# Altium footprint library CONN_W2B_JST.PcbLib: 168 footprints (part 4 of 11)
Each footprint in its own frame and in the unit in brackets; x right, y up, seen from the top. Pads: shape width x height; smd on the part's side, far side on the other; paste and mask are expansions set on the pad; w line width, h text height; cw(c..) or ccw(c..) is an arc to the next point about the centre after c.
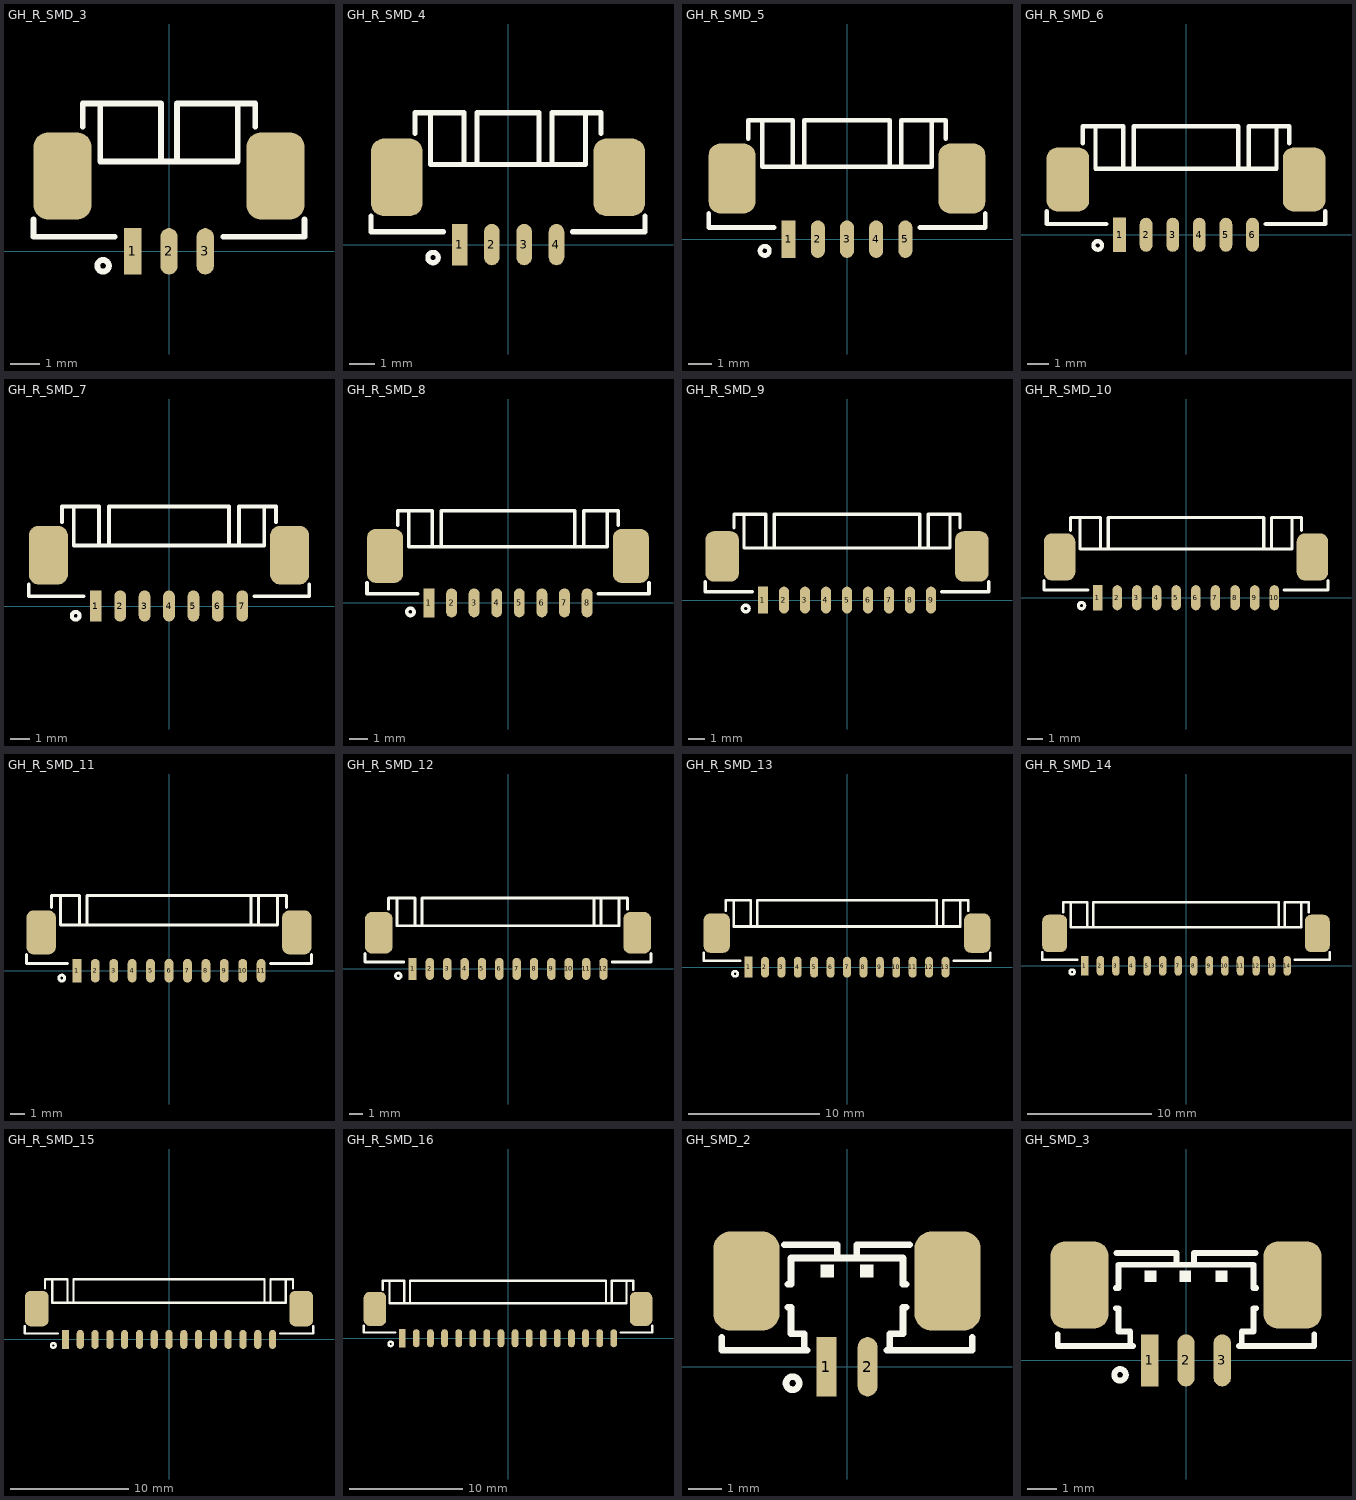
[diagram p3: the footprints below, top view; thin cyan lines are the x and y axes]

## GH_R_SMD_3 [mm] "JST GH Series, pitch: 1.25mm, 1.0A/50v, Right Angle, SMD"
pads (5):
  rect 0.6x1.6 smd: 1(-1.25,0)
  oval 0.6x1.6 smd: 2(0,0) 3(1.25,0)
  rrect50% 2x3 smd: ""(-3.675,2.6) ""(3.675,2.6)
Top Overlay:
  circle w0.2: c-2.275,-0.5 r0.2
  lines w0.2: -4.675,1.1 -4.675,0.5 -1.875,0.5 ; -2.975,4.3 -2.975,5.1 -0.275,5.1 -0.275,3.1 ; -2.375,5.1 -2.375,3.1 2.375,3.1 2.375,5.1 ; 0.275,3.1 0.275,5.1 2.975,5.1 2.975,4.3 ; 1.875,0.5 4.675,0.5 4.675,1.1
3D body "JST - GH - SMD (R) - 3Pin - 1.25mm.stp": height 3.53, standoff 0, extent -4.539,-0.345 4.539,5.002

## GH_R_SMD_4 [mm] "JST GH Series, pitch: 1.25mm, 1.0A/50v, Right Angle, SMD"
pads (6):
  rect 0.6x1.6 smd: 1(-1.875,0)
  oval 0.6x1.6 smd: 2(-0.625,0) 3(0.625,0) 4(1.875,0)
  rrect50% 2x3 smd: ""(-4.3,2.6) ""(4.3,2.6)
Top Overlay:
  circle w0.2: c-2.9,-0.5 r0.2
  lines w0.2: -5.3,1.1 -5.3,0.5 -2.5,0.5 ; -3.6,4.3 -3.6,5.1 -1.7,5.1 -1.7,3.1 ; -3,5.1 -3,3.1 3,3.1 3,5.1 ; -1.2,3.1 -1.2,5.1 1.2,5.1 1.2,3.1 ; 1.7,3.1 1.7,5.1 3.6,5.1 3.6,4.3 ; 2.5,0.5 5.3,0.5 5.3,1.1
3D body "JST - GH - SMD (R) - 4Pin - 1.25mm.stp": height 3.53, standoff 0, extent -5.164,-0.345 5.164,5.002

## GH_R_SMD_5 [mm] "JST GH Series, pitch: 1.25mm, 1.0A/50v, Right Angle, SMD"
pads (7):
  rect 0.6x1.6 smd: 1(-2.5,0)
  oval 0.6x1.6 smd: 2(-1.25,0) 3(0,0) 4(1.25,0) 5(2.5,0)
  rrect50% 2x3 smd: ""(-4.925,2.6) ""(4.925,2.6)
Top Overlay:
  circle w0.2: c-3.525,-0.5 r0.2
  lines w0.2: -5.925,1.1 -5.925,0.5 -3.125,0.5 ; -4.225,4.3 -4.225,5.1 -2.325,5.1 -2.325,3.1 ; -3.625,5.1 -3.625,3.1 3.625,3.1 3.625,5.1 ; -1.825,3.1 -1.825,5.1 1.825,5.1 1.825,3.1 ; 2.325,3.1 2.325,5.1 4.225,5.1 4.225,4.3 ; 3.125,0.5 5.925,0.5 5.925,1.1
3D body "JST - GH - SMD (R) - 5Pin - 1.25mm.stp": height 3.53, standoff 0, extent -5.789,-0.345 5.789,5.002

## GH_R_SMD_6 [mm] "JST GH Series, pitch: 1.25mm, 1.0A/50v, Right Angle, SMD"
pads (8):
  rect 0.6x1.6 smd: 1(-3.125,0)
  oval 0.6x1.6 smd: 2(-1.875,0) 3(-0.625,0) 4(0.625,0) 5(1.875,0) 6(3.125,0)
  rrect50% 2x3 smd: ""(-5.55,2.6) ""(5.55,2.6)
Top Overlay:
  circle w0.2: c-4.15,-0.5 r0.2
  lines w0.2: -6.55,1.1 -6.55,0.5 -3.75,0.5 ; -4.85,4.3 -4.85,5.1 -2.95,5.1 -2.95,3.1 ; -4.25,5.1 -4.25,3.1 4.25,3.1 4.25,5.1 ; -2.45,3.1 -2.45,5.1 2.45,5.1 2.45,3.1 ; 2.95,3.1 2.95,5.1 4.85,5.1 4.85,4.3 ; 3.75,0.5 6.55,0.5 6.55,1.1
3D body "JST - GH - SMD (R) - 6Pin - 1.25mm.stp": height 3.53, standoff 0, extent -6.414,-0.345 6.414,5.002

## GH_R_SMD_7 [mm] "JST GH Series, pitch: 1.25mm, 1.0A/50v, Right Angle, SMD"
pads (9):
  rect 0.6x1.6 smd: 1(-3.75,0)
  oval 0.6x1.6 smd: 2(-2.5,0) 3(-1.25,0) 4(0,0) 5(1.25,0) 6(2.5,0) 7(3.75,0)
  rrect50% 2x3 smd: ""(-6.175,2.6) ""(6.175,2.6)
Top Overlay:
  circle w0.2: c-4.775,-0.5 r0.2
  lines w0.2: -7.175,1.1 -7.175,0.5 -4.375,0.5 ; -5.475,4.3 -5.475,5.1 -3.575,5.1 -3.575,3.1 ; -4.875,5.1 -4.875,3.1 4.875,3.1 4.875,5.1 ; -3.075,3.1 -3.075,5.1 3.075,5.1 3.075,3.1 ; 3.575,3.1 3.575,5.1 5.475,5.1 5.475,4.3 ; 4.375,0.5 7.175,0.5 7.175,1.1
3D body "JST - GH - SMD (R) - 7Pin - 1.25mm.stp": height 3.53, standoff 0, extent -7.039,-0.345 7.039,5.002

## GH_R_SMD_8 [mm] "JST GH Series, pitch: 1.25mm, 1.0A/50v, Right Angle, SMD"
pads (10):
  rect 0.6x1.6 smd: 1(-4.375,0)
  oval 0.6x1.6 smd: 2(-3.125,0) 3(-1.875,0) 4(-0.625,0) 5(0.625,0) 6(1.875,0) 7(3.125,0) 8(4.375,0)
  rrect50% 2x3 smd: ""(-6.8,2.6) ""(6.8,2.6)
Top Overlay:
  circle w0.2: c-5.4,-0.5 r0.2
  lines w0.2: -7.8,1.1 -7.8,0.5 -5,0.5 ; -6.1,4.3 -6.1,5.1 -4.2,5.1 -4.2,3.1 ; -5.5,5.1 -5.5,3.1 5.5,3.1 5.5,5.1 ; -3.7,3.1 -3.7,5.1 3.7,5.1 3.7,3.1 ; 4.2,3.1 4.2,5.1 6.1,5.1 6.1,4.3 ; 5,0.5 7.8,0.5 7.8,1.1
3D body "JST - GH - SMD (R) - 8Pin - 1.25mm.stp": height 3.53, standoff 0, extent -7.664,-0.345 7.664,5.002

## GH_R_SMD_9 [mm] "JST GH Series, pitch: 1.25mm, 1.0A/50v, Right Angle, SMD"
pads (11):
  rect 0.6x1.6 smd: 1(-5,0)
  oval 0.6x1.6 smd: 2(-3.75,0) 3(-2.5,0) 4(-1.25,0) 5(0,0) 6(1.25,0) 7(2.5,0) 8(3.75,0) 9(5,0)
  rrect50% 2x3 smd: ""(-7.425,2.6) ""(7.425,2.6)
Top Overlay:
  circle w0.2: c-6.025,-0.5 r0.2
  lines w0.2: -8.425,1.1 -8.425,0.5 -5.625,0.5 ; -6.725,4.3 -6.725,5.1 -4.825,5.1 -4.825,3.1 ; -6.125,5.1 -6.125,3.1 6.125,3.1 6.125,5.1 ; -4.325,3.1 -4.325,5.1 4.325,5.1 4.325,3.1 ; 4.825,3.1 4.825,5.1 6.725,5.1 6.725,4.3 ; 5.625,0.5 8.425,0.5 8.425,1.1
3D body "JST - GH - SMD (R) - 9Pin - 1.25mm.stp": height 3.53, standoff 0, extent -8.289,-0.345 8.289,5.002

## GH_R_SMD_10 [mm] "JST GH Series, pitch: 1.25mm, 1.0A/50v, Right Angle, SMD"
pads (12):
  rect 0.6x1.6 smd: 1(-5.625,0)
  oval 0.6x1.6 smd: 2(-4.375,0) 3(-3.125,0) 4(-1.875,0) 5(-0.625,0) 6(0.625,0) 7(1.875,0) 8(3.125,0) 9(4.375,0) 10(5.625,0)
  rrect50% 2x3 smd: ""(-8.05,2.6) ""(8.05,2.6)
Top Overlay:
  circle w0.2: c-6.65,-0.5 r0.2
  lines w0.2: -9.05,1.1 -9.05,0.5 -6.25,0.5 ; -7.35,4.3 -7.35,5.1 -5.45,5.1 -5.45,3.1 ; -6.75,5.1 -6.75,3.1 6.75,3.1 6.75,5.1 ; -4.95,3.1 -4.95,5.1 4.95,5.1 4.95,3.1 ; 5.45,3.1 5.45,5.1 7.35,5.1 7.35,4.3 ; 6.25,0.5 9.05,0.5 9.05,1.1
3D body "JST - GH - SMD (R) - 10Pin - 1.25mm.stp": height 3.53, standoff 0, extent -8.914,-0.345 8.914,5.002

## GH_R_SMD_11 [mm] "JST GH Series, pitch: 1.25mm, 1.0A/50v, Right Angle, SMD"
pads (13):
  rect 0.6x1.6 smd: 1(-6.25,0)
  oval 0.6x1.6 smd: 2(-5,0) 3(-3.75,0) 4(-2.5,0) 5(-1.25,0) 6(0,0) 7(1.25,0) 8(2.5,0) 9(3.75,0) 10(5,0) 11(6.25,0)
  rrect50% 2x3 smd: ""(-8.675,2.6) ""(8.675,2.6)
Top Overlay:
  circle w0.2: c-7.275,-0.5 r0.2
  lines w0.2: -9.675,1.1 -9.675,0.5 -6.875,0.5 ; -7.975,4.3 -7.975,5.1 -6.075,5.1 -6.075,3.1 ; -7.375,5.1 -7.375,3.1 7.375,3.1 7.375,5.1 ; -5.575,3.1 -5.575,5.1 7.975,5.1 ; 5.575,3.1 5.575,5.1 ; 6.075,3.1 6.075,5.1 7.975,5.1 ; 6.875,0.5 9.675,0.5 9.675,1.1 ; 7.975,4.3 7.975,5.1
3D body "JST - GH - SMD (R) - 11Pin - 1.25mm.stp": height 3.53, standoff 0, extent -9.539,-0.345 9.539,5.002

## GH_R_SMD_12 [mm] "JST GH Series, pitch: 1.25mm, 1.0A/50v, Right Angle, SMD"
pads (14):
  rect 0.6x1.6 smd: 1(-6.875,0)
  oval 0.6x1.6 smd: 2(-5.625,0) 3(-4.375,0) 4(-3.125,0) 5(-1.875,0) 6(-0.625,0) 7(0.625,0) 8(1.875,0) 9(3.125,0) 10(4.375,0) 11(5.625,0) 12(6.875,0)
  rrect50% 2x3 smd: ""(-9.3,2.6) ""(9.3,2.6)
Top Overlay:
  circle w0.2: c-7.9,-0.5 r0.2
  lines w0.2: -10.3,1.1 -10.3,0.5 -7.5,0.5 ; -8.6,4.3 -8.6,5.1 -6.7,5.1 -6.7,3.1 ; -8,5.1 -8,3.1 8,3.1 8,5.1 ; -6.2,3.1 -6.2,5.1 8.6,5.1 ; 6.2,3.1 6.2,5.1 ; 6.7,3.1 6.7,5.1 8.6,5.1 ; 7.5,0.5 10.3,0.5 10.3,1.1 ; 8.6,4.3 8.6,5.1
3D body "JST - GH - SMD (R) - 12Pin - 1.25mm.stp": height 3.53, standoff 0, extent -10.164,-0.345 10.164,5.002

## GH_R_SMD_13 [mm] "JST GH Series, pitch: 1.25mm, 1.0A/50v, Right Angle, SMD"
pads (15):
  rect 0.6x1.6 smd: 1(-7.5,0)
  oval 0.6x1.6 smd: 2(-6.25,0) 3(-5,0) 4(-3.75,0) 5(-2.5,0) 6(-1.25,0) 7(0,0) 8(1.25,0) 9(2.5,0) 10(3.75,0) 11(5,0) 12(6.25,0) 13(7.5,0)
  rrect50% 2x3 smd: ""(-9.925,2.6) ""(9.925,2.6)
Top Overlay:
  circle w0.2: c-8.525,-0.5 r0.2
  lines w0.2: -10.925,1.1 -10.925,0.5 -8.125,0.5 ; -9.225,4.3 -9.225,5.1 -7.325,5.1 -7.325,3.1 ; -8.625,5.1 -8.625,3.1 8.625,3.1 8.625,5.1 ; -6.825,3.1 -6.825,5.1 6.825,5.1 6.825,3.1 ; 7.325,3.1 7.325,5.1 9.225,5.1 9.225,4.3 ; 8.125,0.5 10.925,0.5 10.925,1.1
3D body "JST - GH - SMD (R) - 13Pin - 1.25mm.stp": height 3.53, standoff 0, extent -10.789,-0.345 10.789,5.002

## GH_R_SMD_14 [mm] "JST GH Series, pitch: 1.25mm, 1.0A/50v, Right Angle, SMD"
pads (16):
  rect 0.6x1.6 smd: 1(-8.125,0)
  oval 0.6x1.6 smd: 2(-6.875,0) 3(-5.625,0) 4(-4.375,0) 5(-3.125,0) 6(-1.875,0) 7(-0.625,0) 8(0.625,0) 9(1.875,0) 10(3.125,0) 11(4.375,0) 12(5.625,0) 13(6.875,0) 14(8.125,0)
  rrect50% 2x3 smd: ""(-10.55,2.6) ""(10.55,2.6)
Top Overlay:
  circle w0.2: c-9.15,-0.5 r0.2
  lines w0.2: -11.55,1.1 -11.55,0.5 -8.75,0.5 ; -9.85,4.3 -9.85,5.1 -7.95,5.1 -7.95,3.1 ; -9.25,5.1 -9.25,3.1 9.25,3.1 9.25,5.1 ; -7.45,3.1 -7.45,5.1 7.45,5.1 7.45,3.1 ; 7.95,3.1 7.95,5.1 9.85,5.1 9.85,4.3 ; 8.75,0.5 11.55,0.5 11.55,1.1
3D body "JST - GH - SMD (R) - 14Pin - 1.25mm.stp": height 3.53, standoff 0, extent -11.414,-0.345 11.414,5.002

## GH_R_SMD_15 [mm] "JST GH Series, pitch: 1.25mm, 1.0A/50v, Right Angle, SMD"
pads (17):
  rect 0.6x1.6 smd: 1(-8.75,0)
  oval 0.6x1.6 smd: 2(-7.5,0) 3(-6.25,0) 4(-5,0) 5(-3.75,0) 6(-2.5,0) 7(-1.25,0) 8(0,0) 9(1.25,0) 10(2.5,0) 11(3.75,0) 12(5,0) 13(6.25,0) 14(7.5,0) 15(8.75,0)
  rrect50% 2x3 smd: ""(-11.175,2.6) ""(11.175,2.6)
Top Overlay:
  circle w0.2: c-9.775,-0.5 r0.2
  lines w0.2: -12.175,1.1 -12.175,0.5 -9.375,0.5 ; -10.475,4.3 -10.475,5.1 -8.575,5.1 -8.575,3.1 ; -9.875,5.1 -9.875,3.1 9.875,3.1 9.875,5.1 ; -8.075,3.1 -8.075,5.1 8.075,5.1 8.075,3.1 ; 8.575,3.1 8.575,5.1 10.475,5.1 10.475,4.3 ; 9.375,0.5 12.175,0.5 12.175,1.1
3D body "JST - GH - SMD (R) - 15Pin - 1.25mm.stp": height 3.53, standoff 0, extent -12.039,-0.345 12.039,5.002

## GH_R_SMD_16 [mm] "JST GH Series, pitch: 1.25mm, 1.0A/50v, Right Angle, SMD"
pads (18):
  rect 0.6x1.6 smd: 1(-9.375,0)
  oval 0.6x1.6 smd: 2(-8.125,0) 3(-6.875,0) 4(-5.625,0) 5(-4.375,0) 6(-3.125,0) 7(-1.875,0) 8(-0.625,0) 9(0.625,0) 10(1.875,0) 11(3.125,0) 12(4.375,0) 13(5.625,0) 14(6.875,0) 15(8.125,0) 16(9.375,0)
  rrect50% 2x3 smd: ""(-11.8,2.6) ""(11.8,2.6)
Top Overlay:
  circle w0.2: c-10.4,-0.5 r0.2
  lines w0.2: -12.8,1.1 -12.8,0.5 -10,0.5 ; -11.1,4.3 -11.1,5.1 -9.2,5.1 -9.2,3.1 ; -10.5,5.1 -10.5,3.1 10.5,3.1 10.5,5.1 ; -8.7,3.1 -8.7,5.1 8.7,5.1 8.7,3.1 ; 9.2,3.1 9.2,5.1 11.1,5.1 11.1,4.3 ; 10,0.5 12.8,0.5 12.8,1.1
3D body "JST - GH - SMD (R) - 16Pin - 1.25mm.stp": height 3.53, standoff 0, extent -12.664,-0.345 12.664,5.002

## GH_SMD_2 [mm] "JST GH Series, pitch: 1.25mm, 1.0A/50v, SMD"
pads (4):
  rect 0.6x1.8 smd: 1(-0.625,0)
  oval 0.6x1.8 smd: 2(0.625,0)
  rrect50% 2x3 smd: ""(-3.05,2.6) ""(3.05,2.6)
Top Overlay:
  circle w0.2: c-1.65,-0.5 r0.2
  region: 0.8,3.1 0.4,3.1 0.4,2.7 0.8,2.7
  rectangle: -0.8,2.7 -0.4,3.1
  lines w0.2: -3.8,0.9 -3.8,0.5 -1.2,0.5 ; -1.9,3.7 -0.3,3.7 -0.3,3.3 ; -1.8,1.8 -1.7,1.8 -1.7,1 -1.3,1 -1.3,0.5 ; -1.8,2.5 -1.7,2.5 -1.7,3.3 1.7,3.3 1.7,2.5 1.8,2.5 ; 0.3,3.3 0.3,3.7 1.9,3.7 ; 1.2,0.5 3.8,0.5 3.8,0.9 ; 1.3,0.5 1.3,1 1.7,1 1.7,1.8 1.8,1.8
3D body "JST - GH - SMD (V) - 2Pin - 1.25mm.stp": height 4.66, standoff 0, extent -3.724,-0.592 3.724,3.649

## GH_SMD_3 [mm] "JST GH Series, pitch: 1.25mm, 1.0A/50v, SMD"
pads (5):
  rect 0.6x1.8 smd: 1(-1.25,0)
  oval 0.6x1.8 smd: 2(0,0) 3(1.25,0)
  rrect50% 2x3 smd: ""(-3.675,2.6) ""(3.675,2.6)
Top Overlay:
  circle w0.2: c-2.275,-0.5 r0.2
  region: 1.425,3.1 1.025,3.1 1.025,2.7 1.425,2.7
  rectangle: -1.425,2.7 -1.025,3.1
  region: 0.175,3.1 -0.225,3.1 -0.225,2.7 0.175,2.7
  lines w0.2: -4.425,0.9 -4.425,0.5 -1.825,0.5 ; -2.425,1.8 -2.325,1.8 -2.325,1 -1.925,1 -1.925,0.5 ; -2.425,2.5 -2.325,2.5 -2.325,3.3 2.325,3.3 2.325,2.5 2.425,2.5 ; -2.4,3.7 -0.325,3.7 -0.325,3.3 ; 0.275,3.3 0.275,3.7 2.4,3.7 ; 1.825,0.5 4.425,0.5 4.425,0.9 ; 1.925,0.5 1.925,1 2.325,1 2.325,1.8 2.425,1.8
3D body "JST - GH - SMD (V) - 3Pin - 1.25mm.stp": height 4.66, standoff 0, extent -4.349,-0.592 4.349,3.65